# Altium schematic symbol library TRANSFORMER.SchLib: 1 symbol
Pins are listed as number, name and electrical type; pins without a type are passive.

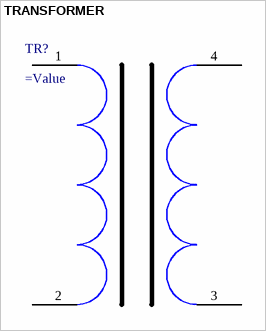
[diagram p0: symbol TRANSFORMER]

## TRANSFORMER
designator TR?
=Description
pins: 1, 2, 3, 4